# EAGLE library part LL1578/XL (library lundahl)
LL1578 / LL1578XL
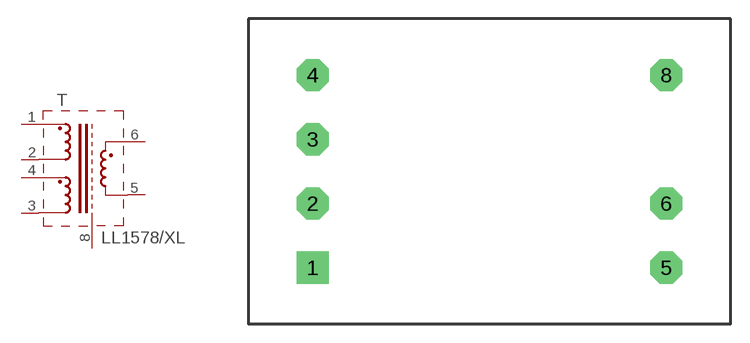
[diagram p7: symbol with the pads of LL1578; footprint LL1578]

Designator prefix T

## LL1578/XL  [LL1578]
1  1  pas
2  2  pas
3  3  pas
4  4  pas
5  5  pas
6  6  pas
8  8  pas

## Footprint LL1578 (pad centres in mm)
LL1578
drill 1.422 pad 2.54 square: 1 -13.97,-7.62
drill 1.422 pad 2.54 octagon: 2 -13.97,-2.54; 3 -13.97,2.54; 4 -13.97,7.62; 5 13.97,-7.62; 6 13.97,-2.54; 8 13.97,7.62